# Altium schematic symbol library LTC1473.SchLib: 1 symbol
Pins are listed as number, name and electrical type; pins without a type are passive.

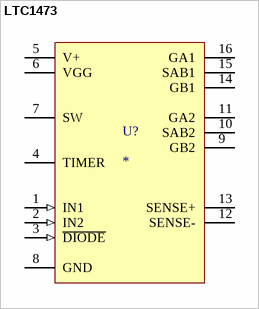
[diagram p0: symbol LTC1473]

## LTC1473
designator U?
IC SWITCH DVR PWRPATH DUAL16SSOP; digikey: LTC1473CGN#PBF-ND
footprint LTC1473 (LINEAR TECHNOLOGY - LTC1473CGN#PBF - SWITCH DRIVER, SMD, SSOP16, 1473)
pins: 1 IN1 (in), 2 IN2 (in), 3 ~{DIODE} (in), 4 TIMER, 5 V+ (power), 6 VGG, 7 SW, 8 GND (power), 9 GB2, 10 SAB2, 11 GA2, 12 SENSE-, 13 SENSE+, 14 GB1, 15 SAB1, 16 GA1